# Altium integrated library Atmel Industrial Control.IntLib: 21 symbols
Pins are listed as number, name and electrical type; pins without a type are passive.

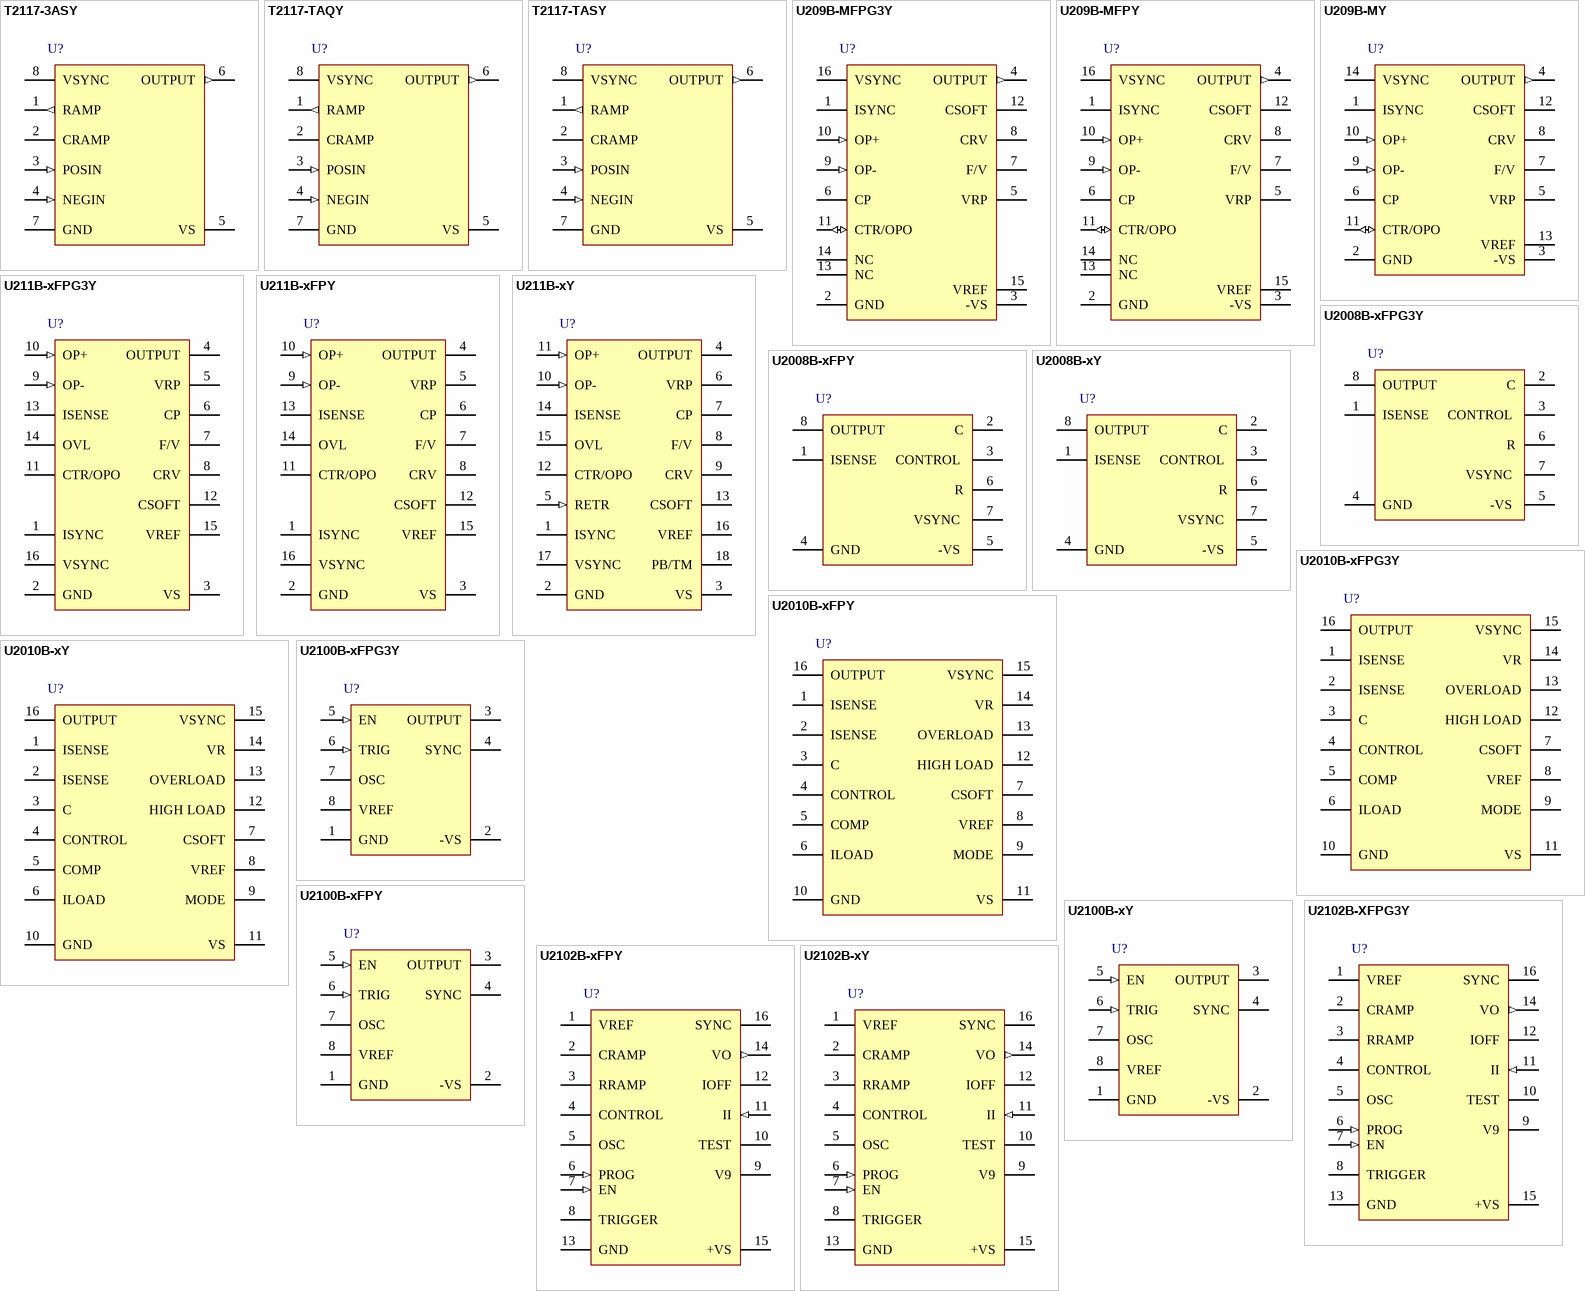
[diagram p0: symbols T2117-3ASY to U2102B-xY]

## T2117-3ASY
designator U?
Zero-voltage Switch with Adjustable Ramp, 8-Pin DIP,Tube, Pb-Free; DatasheetVersion: revB, Oct-2005; PackageVersion: rev1, Jan-2002; PackageReference: DIP8; PackageDescription: DIP, 8-Pin, Skinny Dual In-line Package, 300mil Wide, Pitch 2.54 mm; ComponentLink1Description: Manufacturer URL; ComponentLink1URL: http://www.atmel.com/; ComponentLink2Description: T2117 Datasheet; ComponentLink2URL: http://www.atmel.com/dyn/resources/prod_documents/doc4768.pdf
footprint DIP8 (DIP, 8-Leads, Row Spacing 7.62mm, Pitch 2.54mm, Body 9.65x6.3mm)
pins: 1 RAMP (out), 2 CRAMP, 3 POSIN (in), 4 NEGIN (in), 5 VS (power), 6 OUTPUT (out), 7 GND (power), 8 VSYNC (power)

## T2117-TAQY
designator U?
Zero-voltage Switch with Adjustable Ramp, 8-Pin SO,Tape and Reel, Pb-Free; DatasheetVersion: revB, Oct-2005; PackageVersion: rev1, Aug-2006; PackageReference: SO8; PackageDescription: 8-Pin Small Outline Integrated Circuit 1.27 mm Pitch; ComponentLink1Description: Manufacturer URL; ComponentLink1URL: http://www.atmel.com/; ComponentLink2Description: T2117 Datasheet; ComponentLink2URL: http://www.atmel.com/dyn/resources/prod_documents/doc4768.pdf
footprint SO8_N (SOIC, 8-Leads, Body 4.9x3.8mm, Pitch 1.27mm, IPC Medium Density)
footprint SO8_L (SOIC, 8-Leads, Body 4.9x3.8mm, Pitch 1.27mm, IPC High Density)
footprint SO8_M (SOIC, 8-Leads, Body 4.9x3.8mm, Pitch 1.27mm, IPC Low Density)
pins: 1 RAMP (out), 2 CRAMP, 3 POSIN (in), 4 NEGIN (in), 5 VS (power), 6 OUTPUT (out), 7 GND (power), 8 VSYNC (power)

## T2117-TASY
designator U?
Zero-voltage Switch with Adjustable Ramp, 8-Pin SO,Tube, Pb-Free; DatasheetVersion: revB, Oct-2005; PackageVersion: rev1, Aug-2006; PackageReference: SO8; PackageDescription: 8-Pin Small Outline Integrated Circuit 1.27 mm Pitch; ComponentLink1Description: Manufacturer URL; ComponentLink1URL: http://www.atmel.com/; ComponentLink2Description: T2117 Datasheet; ComponentLink2URL: http://www.atmel.com/dyn/resources/prod_documents/doc4768.pdf
footprint SO8_N (SOIC, 8-Leads, Body 4.9x3.8mm, Pitch 1.27mm, IPC Medium Density)
footprint SO8_L (SOIC, 8-Leads, Body 4.9x3.8mm, Pitch 1.27mm, IPC High Density)
footprint SO8_M (SOIC, 8-Leads, Body 4.9x3.8mm, Pitch 1.27mm, IPC Low Density)
pins: 1 RAMP (out), 2 CRAMP, 3 POSIN (in), 4 NEGIN (in), 5 VS (power), 6 OUTPUT (out), 7 GND (power), 8 VSYNC (power)

## U209B-MFPG3Y
designator U?
Phase Control for Tacho Applications,16-Pin SO, Taped and Reel, Pb-free; DatasheetVersion: revC, Feb-2007; PackageVersion: 1/02/2007; PackageReference: SO16; PackageDescription: 16-Pin Small Outline Integrated Circuit 1.27 mm Pitch; ComponentLink1Description: Manufacturer URL; ComponentLink1URL: http://www.atmel.com/; ComponentLink2Description: U209B Datasheet; ComponentLink2URL: http://www.atmel.com/dyn/resources/prod_documents/doc4765.pdf
footprint SO16_N (SOIC, 16-Leads, Body 9.9x3.8mm, Pitch 1.27mm, IPC Medium Density)
footprint SO16_L (SOIC, 16-Leads, Body 9.9x3.8mm, Pitch 1.27mm, IPC High Density)
footprint SO16_M (SOIC, 16-Leads, Body 9.9x3.8mm, Pitch 1.27mm, IPC Low Density)
pins: 1 ISYNC, 2 GND (power), 3 -VS (power), 4 OUTPUT (out), 5 VRP, 6 CP, 7 F/V, 8 CRV, 9 OP- (in), 10 OP+ (in), 11 CTR/OPO (io), 12 CSOFT, 13 NC, 14 NC, 15 VREF (power), 16 VSYNC (power)

## U209B-MFPY
designator U?
Phase Control for Tacho Applications,16-Pin SO, Tube, Pb-free; DatasheetVersion: revC, Feb-2007; PackageVersion: 1/02/2007; PackageReference: SO16; PackageDescription: 16-Pin Small Outline Integrated Circuit 1.27 mm Pitch; ComponentLink1Description: Manufacturer URL; ComponentLink1URL: http://www.atmel.com/; ComponentLink2Description: U209B Datasheet; ComponentLink2URL: http://www.atmel.com/dyn/resources/prod_documents/doc4765.pdf
footprint SO16_N (SOIC, 16-Leads, Body 9.9x3.8mm, Pitch 1.27mm, IPC Medium Density)
footprint SO16_L (SOIC, 16-Leads, Body 9.9x3.8mm, Pitch 1.27mm, IPC High Density)
footprint SO16_M (SOIC, 16-Leads, Body 9.9x3.8mm, Pitch 1.27mm, IPC Low Density)
pins: 1 ISYNC, 2 GND (power), 3 -VS (power), 4 OUTPUT (out), 5 VRP, 6 CP, 7 F/V, 8 CRV, 9 OP- (in), 10 OP+ (in), 11 CTR/OPO (io), 12 CSOFT, 13 NC, 14 NC, 15 VREF (power), 16 VSYNC (power)

## U209B-MY
designator U?
Phase Control for Tacho Applications,14-Pin DIP, Tube, Pb-free; DatasheetVersion: revC, Feb-2007; PackageVersion: 1/02/2007; PackageReference: DIP14; PackageDescription: DIP, 14-Pin, Skinny Dual In-line Package, 300mil Wide, Pitch 2.54 mm; ComponentLink1Description: Manufacturer URL; ComponentLink1URL: http://www.atmel.com/; ComponentLink2Description: U209B Datasheet; ComponentLink2URL: http://www.atmel.com/dyn/resources/prod_documents/doc4765.pdf
footprint DIP14 (DIP, 14-Leads, Row Spacing 7.62mm, Pitch 2.54mm, Body 19.6x6.3mm)
pins: 1 ISYNC, 2 GND (power), 3 -VS (power), 4 OUTPUT (out), 5 VRP, 6 CP, 7 F/V, 8 CRV, 9 OP- (in), 10 OP+ (in), 11 CTR/OPO (io), 12 CSOFT, 13 VREF (power), 14 VSYNC (power)

## U211B-xFPG3Y
designator U?
Motor controler with phase control, 16-Pin SO, Tape and Reel; DatasheetVersion: revB, Sep-2005; PackageVersion: 1/02/2007; PackageReference: SO16; PackageDescription: 16-Pin Small Outline Integrated Circuit 1.27 mm Pitch; ComponentLink1Description: Manufacturer URL; ComponentLink1URL: http://www.atmel.com/; ComponentLink2Description: U211B Datasheet; ComponentLink2URL: http://www.atmel.com/dyn/resources/prod_documents/doc4752.pdf
footprint SO16_N (SOIC, 16-Leads, Body 9.9x3.8mm, Pitch 1.27mm, IPC Medium Density)
footprint SO16_L (SOIC, 16-Leads, Body 9.9x3.8mm, Pitch 1.27mm, IPC High Density)
footprint SO16_M (SOIC, 16-Leads, Body 9.9x3.8mm, Pitch 1.27mm, IPC Low Density)
pins: 1 ISYNC, 2 GND (power), 3 VS (power), 4 OUTPUT, 5 VRP, 6 CP, 7 F/V, 8 CRV, 9 OP- (in), 10 OP+ (in), 11 CTR/OPO, 12 CSOFT, 13 ISENSE, 14 OVL, 15 VREF (power), 16 VSYNC

## U211B-xFPY
designator U?
Motor controler with phase control, 16-Pin SO, Tube; DatasheetVersion: revB, Sep-2005; PackageVersion: 1/02/2007; PackageReference: SO16; PackageDescription: 16-Pin Small Outline Integrated Circuit 1.27 mm Pitch; ComponentLink1Description: Manufacturer URL; ComponentLink1URL: http://www.atmel.com/; ComponentLink2Description: U211B Datasheet; ComponentLink2URL: http://www.atmel.com/dyn/resources/prod_documents/doc4752.pdf
footprint SO16_N (SOIC, 16-Leads, Body 9.9x3.8mm, Pitch 1.27mm, IPC Medium Density)
footprint SO16_L (SOIC, 16-Leads, Body 9.9x3.8mm, Pitch 1.27mm, IPC High Density)
footprint SO16_M (SOIC, 16-Leads, Body 9.9x3.8mm, Pitch 1.27mm, IPC Low Density)
pins: 1 ISYNC, 2 GND (power), 3 VS (power), 4 OUTPUT, 5 VRP, 6 CP, 7 F/V, 8 CRV, 9 OP- (in), 10 OP+ (in), 11 CTR/OPO, 12 CSOFT, 13 ISENSE, 14 OVL, 15 VREF (power), 16 VSYNC

## U211B-xY
designator U?
Motor controler with phase control, 18-Pin DIP, Tube; DatasheetVersion: revB, Sep-2005; PackageVersion: 1/09/2005; PackageReference: DIP18; PackageDescription: DIP, 18-Pin, Skinny Dual In-line Package, 300mil Wide, Pitch 2.54 mm; ComponentLink1Description: Manufacturer URL; ComponentLink1URL: http://www.atmel.com/; ComponentLink2Description: U211B Datasheet; ComponentLink2URL: http://www.atmel.com/dyn/resources/prod_documents/doc4752.pdf
footprint DIP18 (DIP, 18-Leads, Row Spacing 7.62mm, Pitch 2.54mm, Body 22.9x6.3mm)
pins: 1 ISYNC, 2 GND (power), 3 VS (power), 4 OUTPUT, 5 RETR (in), 6 VRP, 7 CP, 8 F/V, 9 CRV, 10 OP- (in), 11 OP+ (in), 12 CTR/OPO, 13 CSOFT, 14 ISENSE, 15 OVL, 16 VREF (power), 17 VSYNC, 18 PB/TM

## U2008B-xFPG3Y
designator U?
Low-cost Phase-control with Soft Start, 8-Pin SO, Tape and Reel, Pb-Free; DatasheetVersion: revC, Jul-2007; PackageVersion: rev1, Aug-2006; PackageReference: SO8; PackageDescription: 8-Pin Small Outline Integrated Circuit 1.27 mm Pitch; ComponentLink1Description: Manufacturer URL; ComponentLink1URL: http://www.atmel.com/; ComponentLink2Description: U2008B Datasheet; ComponentLink2URL: http://www.atmel.com/dyn/resources/prod_documents/doc4712.pdf
footprint SO8_N (SOIC, 8-Leads, Body 4.9x3.8mm, Pitch 1.27mm, IPC Medium Density)
footprint SO8_L (SOIC, 8-Leads, Body 4.9x3.8mm, Pitch 1.27mm, IPC High Density)
footprint SO8_M (SOIC, 8-Leads, Body 4.9x3.8mm, Pitch 1.27mm, IPC Low Density)
pins: 1 ISENSE , 2 C, 3 CONTROL , 4 GND  (power), 5 -VS  (power), 6 R, 7 VSYNC , 8 OUTPUT 

## U2008B-xFPY
designator U?
Low-cost Phase-control with Soft Start, 8-Pin SO, Tube, Pb-Free; DatasheetVersion: revC, Jul-2007; PackageVersion: rev1, Aug-2006; PackageReference: SO8; PackageDescription: 8-Pin Small Outline Integrated Circuit 1.27 mm Pitch; ComponentLink1Description: Manufacturer URL; ComponentLink1URL: http://www.atmel.com/; ComponentLink2Description: U2008B Datasheet; ComponentLink2URL: http://www.atmel.com/dyn/resources/prod_documents/doc4712.pdf
footprint SO8_N (SOIC, 8-Leads, Body 4.9x3.8mm, Pitch 1.27mm, IPC Medium Density)
footprint SO8_L (SOIC, 8-Leads, Body 4.9x3.8mm, Pitch 1.27mm, IPC High Density)
footprint SO8_M (SOIC, 8-Leads, Body 4.9x3.8mm, Pitch 1.27mm, IPC Low Density)
pins: 1 ISENSE , 2 C, 3 CONTROL , 4 GND  (power), 5 -VS  (power), 6 R, 7 VSYNC , 8 OUTPUT 

## U2008B-xY
designator U?
Low-cost Phase-control with Soft Start, 8-Pin DIP, Tube, Pb-Free; DatasheetVersion: revC, Jul-2007; PackageVersion: rev1, Jan-2002; PackageReference: DIP8; PackageDescription: DIP, 8-Pin, Skinny Dual In-line Package, 300mil Wide, Pitch 2.54 mm; ComponentLink1Description: Manufacturer URL; ComponentLink1URL: http://www.atmel.com/; ComponentLink2Description: U2008B Datasheet; ComponentLink2URL: http://www.atmel.com/dyn/resources/prod_documents/doc4712.pdf
footprint DIP8 (DIP, 8-Leads, Row Spacing 7.62mm, Pitch 2.54mm, Body 9.65x6.3mm)
pins: 1 ISENSE , 2 C, 3 CONTROL , 4 GND  (power), 5 -VS  (power), 6 R, 7 VSYNC , 8 OUTPUT 

## U2010B-xFPG3Y
designator U?
Phase Control with Current Feedback and Overload Protection, 16-Pin SO, Tape and Reel, Pb-Free; DatasheetVersion: revB, Oct-2005; PackageVersion: 1/02/2007; PackageReference: SO16; PackageDescription: 16-Pin Small Outline Integrated Circuit 1.27 mm Pitch; ComponentLink1Description: Manufacturer URL; ComponentLink1URL: http://www.atmel.com/; ComponentLink2Description: U2010B Datasheet; ComponentLink2URL: http://www.atmel.com/dyn/resources/prod_documents/doc4766.pdf
footprint SO16_N (SOIC, 16-Leads, Body 9.9x3.8mm, Pitch 1.27mm, IPC Medium Density)
footprint SO16_L (SOIC, 16-Leads, Body 9.9x3.8mm, Pitch 1.27mm, IPC High Density)
footprint SO16_M (SOIC, 16-Leads, Body 9.9x3.8mm, Pitch 1.27mm, IPC Low Density)
pins: 1 ISENSE, 2 ISENSE, 3 C, 4 CONTROL, 5 COMP, 6 ILOAD, 7 CSOFT, 8 VREF, 9 MODE, 10 GND (power), 11 VS (power), 12 HIGH LOAD, 13 OVERLOAD, 14 VR, 15 VSYNC, 16 OUTPUT

## U2010B-xFPY
designator U?
Phase Control with Current Feedback and Overload Protection, 16-Pin SO, Tube, Pb-Free; DatasheetVersion: revB, Oct-2005; PackageVersion: 1/02/2007; PackageReference: SO16; PackageDescription: 16-Pin Small Outline Integrated Circuit 1.27 mm Pitch; ComponentLink1Description: Manufacturer URL; ComponentLink1URL: http://www.atmel.com/; ComponentLink2Description: U2010B Datasheet; ComponentLink2URL: http://www.atmel.com/dyn/resources/prod_documents/doc4766.pdf
footprint SO16_N (SOIC, 16-Leads, Body 9.9x3.8mm, Pitch 1.27mm, IPC Medium Density)
footprint SO16_L (SOIC, 16-Leads, Body 9.9x3.8mm, Pitch 1.27mm, IPC High Density)
footprint SO16_M (SOIC, 16-Leads, Body 9.9x3.8mm, Pitch 1.27mm, IPC Low Density)
pins: 1 ISENSE, 2 ISENSE, 3 C, 4 CONTROL, 5 COMP, 6 ILOAD, 7 CSOFT, 8 VREF, 9 MODE, 10 GND (power), 11 VS (power), 12 HIGH LOAD, 13 OVERLOAD, 14 VR, 15 VSYNC, 16 OUTPUT

## U2010B-xY
designator U?
Phase Control with Current Feedback and Overload Protection, 16-Pin DIP, Tube, Pb-Free; DatasheetVersion: revB, Oct-2005; PackageVersion: 1/10/2005; PackageReference: DIP16; PackageDescription: DIP, 16-Pin, Skinny Dual In-line Package, 300mil Wide, Pitch 2.54 mm; ComponentLink1Description: Manufacturer URL; ComponentLink1URL: http://www.atmel.com/; ComponentLink2Description: U2010B Datasheet; ComponentLink2URL: http://www.atmel.com/dyn/resources/prod_documents/doc4766.pdf
footprint DIP16 (DIP, 16-Leads, Row Spacing 7.62mm, Pitch 2.54mm, Body 19.6x6.3mm)
pins: 1 ISENSE, 2 ISENSE, 3 C, 4 CONTROL, 5 COMP, 6 ILOAD, 7 CSOFT, 8 VREF, 9 MODE, 10 GND (power), 11 VS (power), 12 HIGH LOAD, 13 OVERLOAD, 14 VR, 15 VSYNC, 16 OUTPUT

## U2100B-xFPG3Y
designator U?
Timer Control for Triac and Relay, 8-Pin SO, Tape and Reel; DatasheetVersion: revC, Jul-2005; PackageVersion: rev1, Aug-2006; PackageReference: SO8; PackageDescription: 8-Pin Small Outline Integrated Circuit 1.27 mm Pitch; ComponentLink1Description: Manufacturer URL; ComponentLink1URL: http://www.atmel.com/; ComponentLink2Description: U2100B Datasheet; ComponentLink2URL: http://www.atmel.com/dyn/resources/prod_documents/doc4769.pdf
footprint SO8_N (SOIC, 8-Leads, Body 4.9x3.8mm, Pitch 1.27mm, IPC Medium Density)
footprint SO8_L (SOIC, 8-Leads, Body 4.9x3.8mm, Pitch 1.27mm, IPC High Density)
footprint SO8_M (SOIC, 8-Leads, Body 4.9x3.8mm, Pitch 1.27mm, IPC Low Density)
pins: 1 GND (power), 2 -VS (power), 3 OUTPUT, 4 SYNC, 5 EN (in), 6 TRIG (in), 7 OSC, 8 VREF (power)

## U2100B-xFPY
designator U?
Timer Control for Triac and Relay, 8-Pin SO, Tube; DatasheetVersion: revC, Jul-2005; PackageVersion: rev1, Aug-2006; PackageReference: SO8; PackageDescription: 8-Pin Small Outline Integrated Circuit 1.27 mm Pitch; ComponentLink1Description: Manufacturer URL; ComponentLink1URL: http://www.atmel.com/; ComponentLink2Description: U2100B Datasheet; ComponentLink2URL: http://www.atmel.com/dyn/resources/prod_documents/doc4769.pdf
footprint SO8_N (SOIC, 8-Leads, Body 4.9x3.8mm, Pitch 1.27mm, IPC Medium Density)
footprint SO8_L (SOIC, 8-Leads, Body 4.9x3.8mm, Pitch 1.27mm, IPC High Density)
footprint SO8_M (SOIC, 8-Leads, Body 4.9x3.8mm, Pitch 1.27mm, IPC Low Density)
pins: 1 GND (power), 2 -VS (power), 3 OUTPUT, 4 SYNC, 5 EN (in), 6 TRIG (in), 7 OSC, 8 VREF (power)

## U2100B-xY
designator U?
Timer Control for Triac and Relay, 8-Pin DIP, Tube; DatasheetVersion: revC, Jul-2005; PackageVersion: rev1, Jan-2002; PackageReference: DIP8; PackageDescription: DIP, 8-Pin, Skinny Dual In-line Package, 300mil Wide, Pitch 2.54 mm; ComponentLink1Description: Manufacturer URL; ComponentLink1URL: http://www.atmel.com/; ComponentLink2Description: U2100B Datasheet; ComponentLink2URL: http://www.atmel.com/dyn/resources/prod_documents/doc4769.pdf
footprint DIP8 (DIP, 8-Leads, Row Spacing 7.62mm, Pitch 2.54mm, Body 9.65x6.3mm)
pins: 1 GND (power), 2 -VS (power), 3 OUTPUT, 4 SYNC, 5 EN (in), 6 TRIG (in), 7 OSC, 8 VREF (power)

## U2102B-XFPG3Y
designator U?
Multifunction Timer, 16-Pin SO, Tape and Reel, Pb-Free; DatasheetVersion: revB, Oct-2005; PackageVersion: 1/02/2007; PackageReference: SO16; PackageDescription: 16-Pin Small Outline Integrated Circuit 1.27 mm Pitch; ComponentLink1Description: Manufacturer URL; ComponentLink1URL: http://www.atmel.com/; ComponentLink2Description: U2102B Datasheet; ComponentLink2URL: http://www.atmel.com/dyn/resources/prod_documents/doc4767.pdf
footprint SO16_N (SOIC, 16-Leads, Body 9.9x3.8mm, Pitch 1.27mm, IPC Medium Density)
footprint SO16_L (SOIC, 16-Leads, Body 9.9x3.8mm, Pitch 1.27mm, IPC High Density)
footprint SO16_M (SOIC, 16-Leads, Body 9.9x3.8mm, Pitch 1.27mm, IPC Low Density)
pins: 1 VREF (power), 2 CRAMP, 3 RRAMP, 4 CONTROL, 5 OSC, 6 PROG (in), 7 EN (in), 8 TRIGGER, 9 V9, 10 TEST, 11 II (in), 12 IOFF, 13 GND (power), 14 VO (out), 15 +VS (power), 16 SYNC

## U2102B-xFPY
designator U?
Multifunction Timer, 16-Pin SO, Tube, Pb-Free; DatasheetVersion: revB, Oct-2005; PackageVersion: 1/02/2007; PackageReference: SO16; PackageDescription: 16-Pin Small Outline Integrated Circuit 1.27 mm Pitch; ComponentLink1Description: Manufacturer URL; ComponentLink1URL: http://www.atmel.com/; ComponentLink2Description: U2102B Datasheet; ComponentLink2URL: http://www.atmel.com/dyn/resources/prod_documents/doc4767.pdf
footprint SO16_N (SOIC, 16-Leads, Body 9.9x3.8mm, Pitch 1.27mm, IPC Medium Density)
footprint SO16_L (SOIC, 16-Leads, Body 9.9x3.8mm, Pitch 1.27mm, IPC High Density)
footprint SO16_M (SOIC, 16-Leads, Body 9.9x3.8mm, Pitch 1.27mm, IPC Low Density)
pins: 1 VREF (power), 2 CRAMP, 3 RRAMP, 4 CONTROL, 5 OSC, 6 PROG (in), 7 EN (in), 8 TRIGGER, 9 V9, 10 TEST, 11 II (in), 12 IOFF, 13 GND (power), 14 VO (out), 15 +VS (power), 16 SYNC

## U2102B-xY
designator U?
Multifunction Timer, 16-Pin DIP, Tube, Pb-Free; DatasheetVersion: revB, Oct-2005; PackageVersion: 1/10/2005; PackageReference: DIP16; PackageDescription: DIP, 16-Pin, Skinny Dual In-line Package, 300mil Wide, Pitch 2.54 mm; ComponentLink1Description: Manufacturer URL; ComponentLink1URL: http://www.atmel.com/; ComponentLink2Description: U2102B Datasheet; ComponentLink2URL: http://www.atmel.com/dyn/resources/prod_documents/doc4767.pdf
footprint DIP16 (DIP, 16-Leads, Row Spacing 7.62mm, Pitch 2.54mm, Body 19.6x6.3mm)
pins: 1 VREF (power), 2 CRAMP, 3 RRAMP, 4 CONTROL, 5 OSC, 6 PROG (in), 7 EN (in), 8 TRIGGER, 9 V9, 10 TEST, 11 II (in), 12 IOFF, 13 GND (power), 14 VO (out), 15 +VS (power), 16 SYNC